# Altium footprint library 10W 3Ohm.PcbLib: 1 footprints
Each footprint in its own frame and in the unit in brackets; x right, y up, seen from the top. Pads: shape width x height; smd on the part's side, far side on the other; paste and mask are expansions set on the pad; w line width, h text height; cw(c..) or ccw(c..) is an arc to the next point about the centre after c.
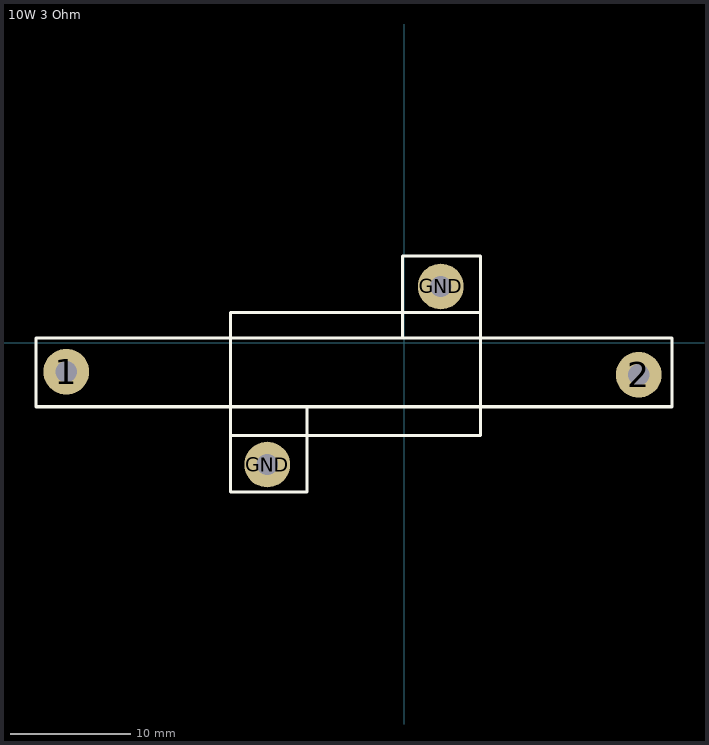
[diagram p0: the footprint, top view; thin cyan lines are the x and y axes]

## 10W 3 Ohm [mil]
pads (4):
  round 150 hole 70: 1(-1110,-95) 2(770,-105) GND(-450,-400) GND(120,185)
Top Overlay:
  lines w10: -570,-305 250,-305 250,-115 250,100 -570,100 -570,-210 -570,-490 -320,-490 -320,-210 ; -5,15 -5,285 250,285 250,15 ; -1210,-210 880,-210 880,15 -1210,15 -1210,-210
3D body "HITANO 10W 3 Ohm J.STEP": height 416.89, standoff 23.15, extent -810,-490.59 481.34,285